# Altium integrated library Linear Technology Power Management Battery Management.IntLib: 626 symbols (part 30 of 56)
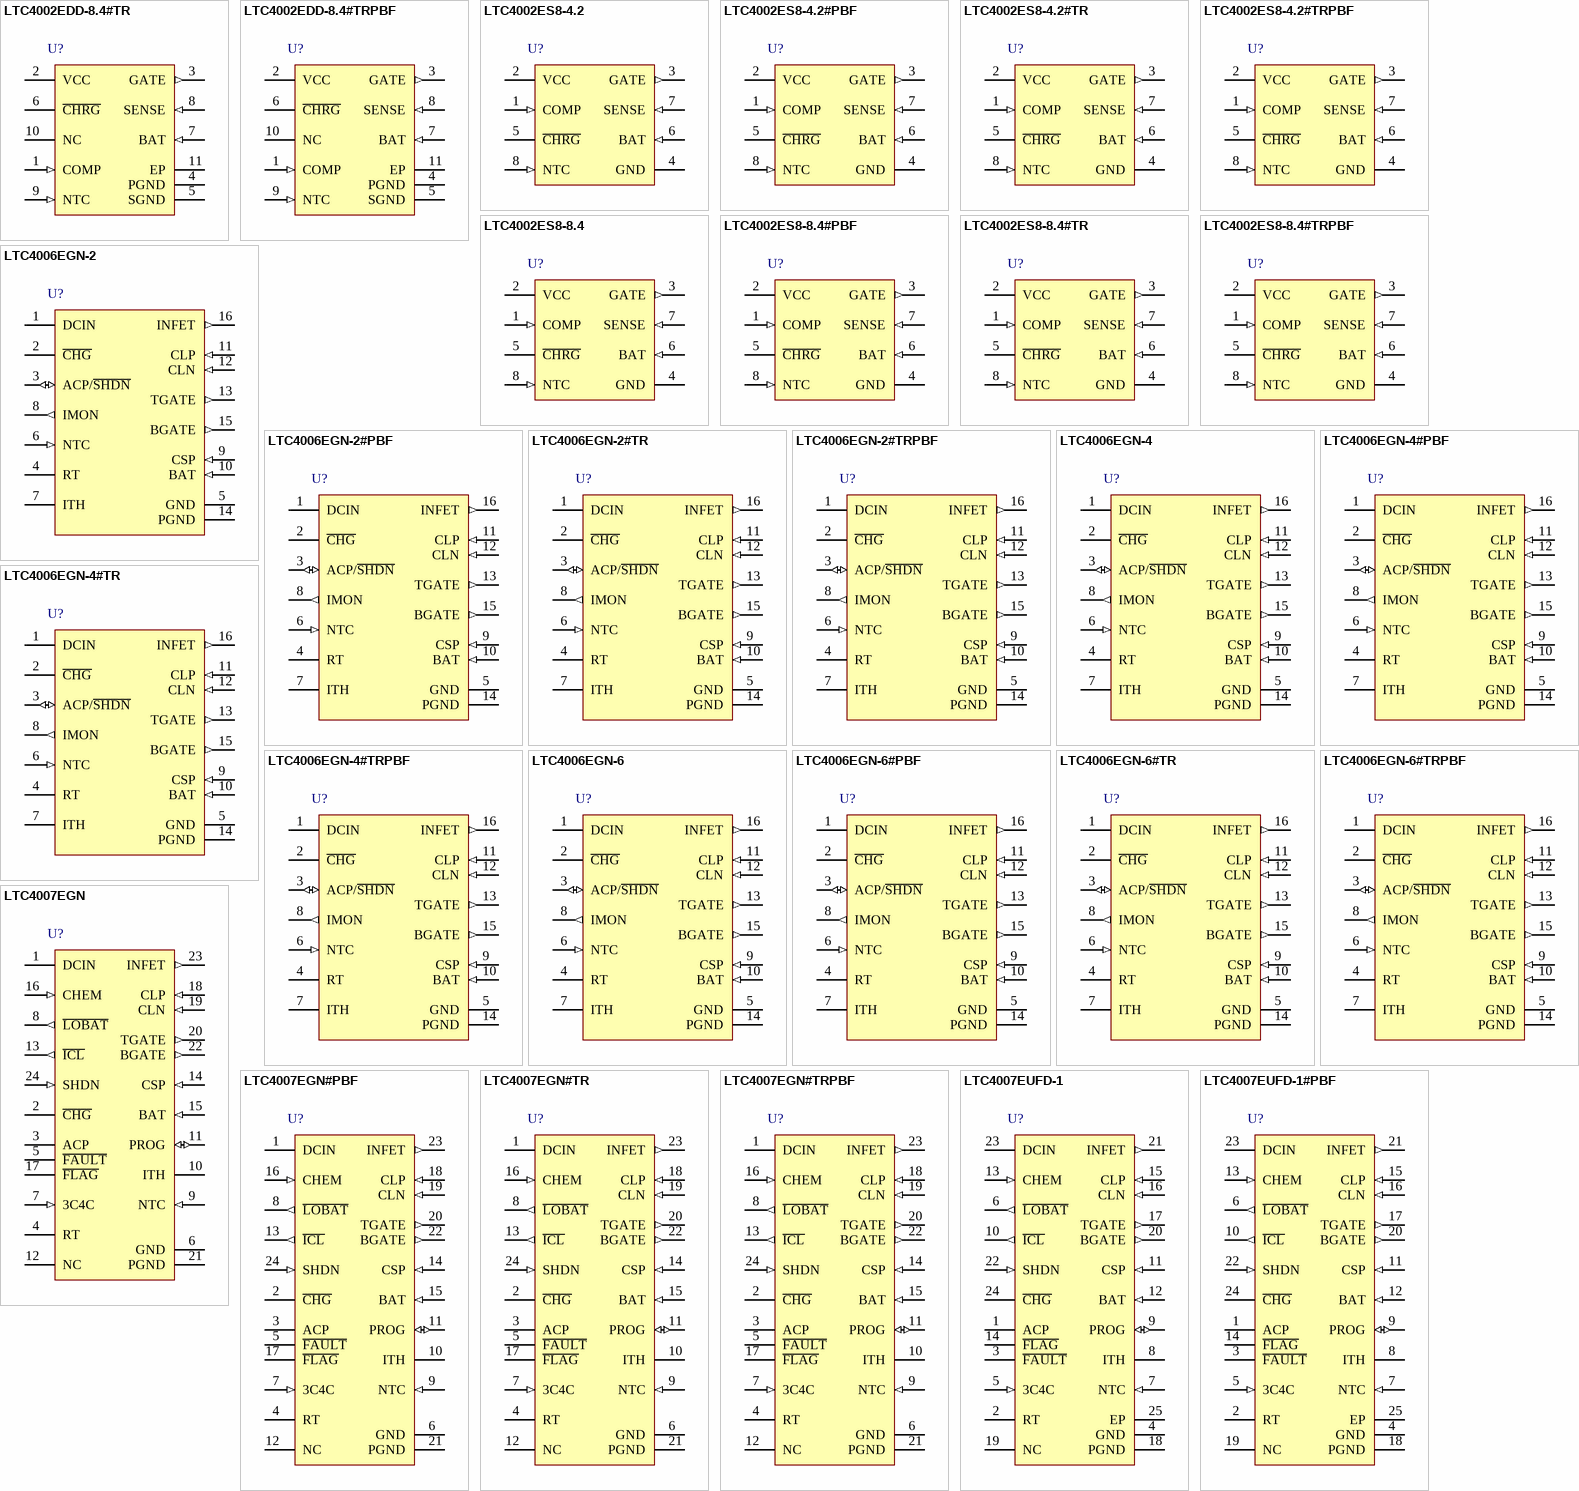
[diagram p51: symbols LTC4002EDD-8.4#TR to LTC4007EUFD-1#PBF]

## LTC4002ES8-4.2#TRPBF
designator U?
Standalone Li-Ion Switch Mode Battery Charger, 4.7 to 22 V Vin, 8-pin SOIC (S8-8), -40 to 85 degC, Pb-Free, Tape and Reel; Manufacturer: Linear Technology; PartNumber: LTC4002ES8-4.2#TRPBF; Battery Chemistry: Li-Ion, Li-Polymer; Charge Termination: On-board timer; Float Voltage: 4.2 V; Number of Cells: 1; Type of Charger: Switching; Vin Max(V): 22; Vin Min(V): 4.7; PackageVersion: Rev. G, 03/2012; PackageReference: S8-8; PackageDescription: 8-Pin Plastic Small Outline (Narrow .150 Inch), Body 4.9 x 3.9 mm, Pitch 1.27 mm; Supplier 1: Digi-Key; Supplier Part Number 1: LTC4002ES8-4.2#TRPBF-ND; Packing: Tape and Reel; RoHS: TRUE; Mounting Technology: Surface Mount; ComponentLink1Description: Manufacturer URL; ComponentLink1URL: http://www.linear.com/; ComponentLink2Description: Datasheet; ComponentLink2URL: http://cds.linear.com/docs/en/datasheet/4002f.pdf; ComponentLink3Description: Package Specification; ComponentLink3URL: http://cds.linear.com/docs/en/packaging/05081610_G_SO8.pdf
footprint LT-S8-8_N (SOIC, 8-Leads, Body 5x4mm, Pitch 1.27mm, IPC Medium Density)
footprint LT-S8-8_L (SOIC, 8-Leads, Body 5x4mm, Pitch 1.27mm, IPC High Density)
footprint LT-S8-8_M (SOIC, 8-Leads, Body 5x4mm, Pitch 1.27mm, IPC Low Density)
pins: 1 COMP (in) "Compensation, Soft-Start and Shutdown Control Pin. The COMP pin is the control signal of the inner loop of the current mode PWM. Charging begins when the COMP pin reaches 800mV. The recommended compensation components are a (See Datasheet)", 2 VCC (power) "Positive Supply Voltage Input. VCC can range from VBAT(FLT) + 0.5V to 22V. A 0.1uF or higher capacitor is required at the VCC pin with the lead length kept to a minimum. A 10uF low ESR capacitor is also required at the (See Datasheet)", 3 GATE (out) "Gate Drive Output. Driver Output for the P-Channel MOSFET. The voltage at this pin is internally clamped to 8V below VCC, allowing a low voltage MOSFET with gate-to-source breakdown voltage of 8V or less to be used.", 4 GND (power) "IC Ground. The exposed pad (DFN) must be soldered to PCB ground to provide both electrical contact and optimum thermal performance.", 5 ~{CHRG} (hiz) "Open-Drain Charge Status Output. When the battery is being charged, the C\H\R\G\ pin is pulled low by an internal N-channel MOSFET. When the charge current drops below the End-of-Charge threshold for more than 120us, the (See Datasheet)", 6 BAT (in) "Battery Sense Input. A bypass capacitor of 22uF is required to minimize ripple voltage. An internal resistor divider, which is disconnected in sleep mode, sets the final float voltage at this pin. If the battery connection (See Datasheet)", 7 SENSE (in) "Current Amplifier Sense Input. A sense resistor, RSENSE, must be connected between the SENSE and BAT pins. The maximum charge current is equal to 100mV/RSENSE.", 8 NTC (in) "NTC (Negative Temperature Coefficient) Thermistor Input. With an external 10kohm NTC thermistor to ground, this pin senses the temperature of the battery pack and stops the charger when the temperature is out of range. When (See Datasheet)"

## LTC4002ES8-8.4
designator U?
Standalone Li-Ion Switch Mode Battery Charger, 8.9 to 22 V Vin, 8-pin SOIC (S8-8), -40 to 85 degC; Manufacturer: Linear Technology; PartNumber: LTC4002ES8-8.4; Battery Chemistry: Li-Ion, Li-Polymer; Charge Termination: On-board timer; Float Voltage: 8.4 V; Number of Cells: 2; Type of Charger: Switching; Vin Max(V): 22; Vin Min(V): 8.9; PackageVersion: Rev. G, 03/2012; PackageReference: S8-8; PackageDescription: 8-Pin Plastic Small Outline (Narrow .150 Inch), Body 4.9 x 3.9 mm, Pitch 1.27 mm; Supplier 1: Digi-Key; Supplier Part Number 1: LTC4002ES8-8.4-ND; RoHS: FALSE; Mounting Technology: Surface Mount; ComponentLink1Description: Manufacturer URL; ComponentLink1URL: http://www.linear.com/; ComponentLink2Description: Datasheet; ComponentLink2URL: http://cds.linear.com/docs/en/datasheet/4002f.pdf; ComponentLink3Description: Package Specification; ComponentLink3URL: http://cds.linear.com/docs/en/packaging/05081610_G_SO8.pdf
footprint LT-S8-8_N (SOIC, 8-Leads, Body 5x4mm, Pitch 1.27mm, IPC Medium Density)
footprint LT-S8-8_L (SOIC, 8-Leads, Body 5x4mm, Pitch 1.27mm, IPC High Density)
footprint LT-S8-8_M (SOIC, 8-Leads, Body 5x4mm, Pitch 1.27mm, IPC Low Density)
pins: 1 COMP (in) "Compensation, Soft-Start and Shutdown Control Pin. The COMP pin is the control signal of the inner loop of the current mode PWM. Charging begins when the COMP pin reaches 800mV. The recommended compensation components are a (See Datasheet)", 2 VCC (power) "Positive Supply Voltage Input. VCC can range from VBAT(FLT) + 0.5V to 22V. A 0.1uF or higher capacitor is required at the VCC pin with the lead length kept to a minimum. A 10uF low ESR capacitor is also required at the (See Datasheet)", 3 GATE (out) "Gate Drive Output. Driver Output for the P-Channel MOSFET. The voltage at this pin is internally clamped to 8V below VCC, allowing a low voltage MOSFET with gate-to-source breakdown voltage of 8V or less to be used.", 4 GND (power) "IC Ground. The exposed pad (DFN) must be soldered to PCB ground to provide both electrical contact and optimum thermal performance.", 5 ~{CHRG} (hiz) "Open-Drain Charge Status Output. When the battery is being charged, the C\H\R\G\ pin is pulled low by an internal N-channel MOSFET. When the charge current drops below the End-of-Charge threshold for more than 120us, the (See Datasheet)", 6 BAT (in) "Battery Sense Input. A bypass capacitor of 22uF is required to minimize ripple voltage. An internal resistor divider, which is disconnected in sleep mode, sets the final float voltage at this pin. If the battery connection (See Datasheet)", 7 SENSE (in) "Current Amplifier Sense Input. A sense resistor, RSENSE, must be connected between the SENSE and BAT pins. The maximum charge current is equal to 100mV/RSENSE.", 8 NTC (in) "NTC (Negative Temperature Coefficient) Thermistor Input. With an external 10kohm NTC thermistor to ground, this pin senses the temperature of the battery pack and stops the charger when the temperature is out of range. When (See Datasheet)"

## LTC4002ES8-8.4#PBF
designator U?
Standalone Li-Ion Switch Mode Battery Charger, 8.9 to 22 V Vin, 8-pin SOIC (S8-8), -40 to 85 degC, Pb-Free; Manufacturer: Linear Technology; PartNumber: LTC4002ES8-8.4#PBF; Battery Chemistry: Li-Ion, Li-Polymer; Charge Termination: On-board timer; Float Voltage: 8.4 V; Number of Cells: 2; Type of Charger: Switching; Vin Max(V): 22; Vin Min(V): 8.9; PackageVersion: Rev. G, 03/2012; PackageReference: S8-8; PackageDescription: 8-Pin Plastic Small Outline (Narrow .150 Inch), Body 4.9 x 3.9 mm, Pitch 1.27 mm; Supplier 1: Digi-Key; Supplier Part Number 1: LTC4002ES8-8.4#PBF-ND; Supplier 2: Farnell; Supplier Part Number 2: 1556268; Supplier 3: Newark; Supplier Part Number 3: 58M0818; RoHS: TRUE; Mounting Technology: Surface Mount; ComponentLink1Description: Manufacturer URL; ComponentLink1URL: http://www.linear.com/; ComponentLink2Description: Datasheet; ComponentLink2URL: http://cds.linear.com/docs/en/datasheet/4002f.pdf; ComponentLink3Description: Package Specification; ComponentLink3URL: http://cds.linear.com/docs/en/packaging/05081610_G_SO8.pdf
footprint LT-S8-8_N (SOIC, 8-Leads, Body 5x4mm, Pitch 1.27mm, IPC Medium Density)
footprint LT-S8-8_L (SOIC, 8-Leads, Body 5x4mm, Pitch 1.27mm, IPC High Density)
footprint LT-S8-8_M (SOIC, 8-Leads, Body 5x4mm, Pitch 1.27mm, IPC Low Density)
pins: 1 COMP (in) "Compensation, Soft-Start and Shutdown Control Pin. The COMP pin is the control signal of the inner loop of the current mode PWM. Charging begins when the COMP pin reaches 800mV. The recommended compensation components are a (See Datasheet)", 2 VCC (power) "Positive Supply Voltage Input. VCC can range from VBAT(FLT) + 0.5V to 22V. A 0.1uF or higher capacitor is required at the VCC pin with the lead length kept to a minimum. A 10uF low ESR capacitor is also required at the (See Datasheet)", 3 GATE (out) "Gate Drive Output. Driver Output for the P-Channel MOSFET. The voltage at this pin is internally clamped to 8V below VCC, allowing a low voltage MOSFET with gate-to-source breakdown voltage of 8V or less to be used.", 4 GND (power) "IC Ground. The exposed pad (DFN) must be soldered to PCB ground to provide both electrical contact and optimum thermal performance.", 5 ~{CHRG} (hiz) "Open-Drain Charge Status Output. When the battery is being charged, the C\H\R\G\ pin is pulled low by an internal N-channel MOSFET. When the charge current drops below the End-of-Charge threshold for more than 120us, the (See Datasheet)", 6 BAT (in) "Battery Sense Input. A bypass capacitor of 22uF is required to minimize ripple voltage. An internal resistor divider, which is disconnected in sleep mode, sets the final float voltage at this pin. If the battery connection (See Datasheet)", 7 SENSE (in) "Current Amplifier Sense Input. A sense resistor, RSENSE, must be connected between the SENSE and BAT pins. The maximum charge current is equal to 100mV/RSENSE.", 8 NTC (in) "NTC (Negative Temperature Coefficient) Thermistor Input. With an external 10kohm NTC thermistor to ground, this pin senses the temperature of the battery pack and stops the charger when the temperature is out of range. When (See Datasheet)"

## LTC4002ES8-8.4#TR
designator U?
Standalone Li-Ion Switch Mode Battery Charger, 8.9 to 22 V Vin, 8-pin SOIC (S8-8), -40 to 85 degC, Tape and Reel; Manufacturer: Linear Technology; PartNumber: LTC4002ES8-8.4#TR; Battery Chemistry: Li-Ion, Li-Polymer; Charge Termination: On-board timer; Float Voltage: 8.4 V; Number of Cells: 2; Type of Charger: Switching; Vin Max(V): 22; Vin Min(V): 8.9; PackageVersion: Rev. G, 03/2012; PackageReference: S8-8; PackageDescription: 8-Pin Plastic Small Outline (Narrow .150 Inch), Body 4.9 x 3.9 mm, Pitch 1.27 mm; Supplier 1: Digi-Key; Supplier Part Number 1: LTC4002ES8-8.4#TR-ND; Packing: Tape and Reel; RoHS: FALSE; Mounting Technology: Surface Mount; ComponentLink1Description: Manufacturer URL; ComponentLink1URL: http://www.linear.com/; ComponentLink2Description: Datasheet; ComponentLink2URL: http://cds.linear.com/docs/en/datasheet/4002f.pdf; ComponentLink3Description: Package Specification; ComponentLink3URL: http://cds.linear.com/docs/en/packaging/05081610_G_SO8.pdf
footprint LT-S8-8_N (SOIC, 8-Leads, Body 5x4mm, Pitch 1.27mm, IPC Medium Density)
footprint LT-S8-8_L (SOIC, 8-Leads, Body 5x4mm, Pitch 1.27mm, IPC High Density)
footprint LT-S8-8_M (SOIC, 8-Leads, Body 5x4mm, Pitch 1.27mm, IPC Low Density)
pins: 1 COMP (in) "Compensation, Soft-Start and Shutdown Control Pin. The COMP pin is the control signal of the inner loop of the current mode PWM. Charging begins when the COMP pin reaches 800mV. The recommended compensation components are a (See Datasheet)", 2 VCC (power) "Positive Supply Voltage Input. VCC can range from VBAT(FLT) + 0.5V to 22V. A 0.1uF or higher capacitor is required at the VCC pin with the lead length kept to a minimum. A 10uF low ESR capacitor is also required at the (See Datasheet)", 3 GATE (out) "Gate Drive Output. Driver Output for the P-Channel MOSFET. The voltage at this pin is internally clamped to 8V below VCC, allowing a low voltage MOSFET with gate-to-source breakdown voltage of 8V or less to be used.", 4 GND (power) "IC Ground. The exposed pad (DFN) must be soldered to PCB ground to provide both electrical contact and optimum thermal performance.", 5 ~{CHRG} (hiz) "Open-Drain Charge Status Output. When the battery is being charged, the C\H\R\G\ pin is pulled low by an internal N-channel MOSFET. When the charge current drops below the End-of-Charge threshold for more than 120us, the (See Datasheet)", 6 BAT (in) "Battery Sense Input. A bypass capacitor of 22uF is required to minimize ripple voltage. An internal resistor divider, which is disconnected in sleep mode, sets the final float voltage at this pin. If the battery connection (See Datasheet)", 7 SENSE (in) "Current Amplifier Sense Input. A sense resistor, RSENSE, must be connected between the SENSE and BAT pins. The maximum charge current is equal to 100mV/RSENSE.", 8 NTC (in) "NTC (Negative Temperature Coefficient) Thermistor Input. With an external 10kohm NTC thermistor to ground, this pin senses the temperature of the battery pack and stops the charger when the temperature is out of range. When (See Datasheet)"

## LTC4002ES8-8.4#TRPBF
designator U?
Standalone Li-Ion Switch Mode Battery Charger, 8.9 to 22 V Vin, 8-pin SOIC (S8-8), -40 to 85 degC, Pb-Free, Tape and Reel; Manufacturer: Linear Technology; PartNumber: LTC4002ES8-8.4#TRPBF; Battery Chemistry: Li-Ion, Li-Polymer; Charge Termination: On-board timer; Float Voltage: 8.4 V; Number of Cells: 2; Type of Charger: Switching; Vin Max(V): 22; Vin Min(V): 8.9; PackageVersion: Rev. G, 03/2012; PackageReference: S8-8; PackageDescription: 8-Pin Plastic Small Outline (Narrow .150 Inch), Body 4.9 x 3.9 mm, Pitch 1.27 mm; Supplier 1: Digi-Key; Supplier Part Number 1: LTC4002ES8-8.4#TRPBF-ND; Packing: Tape and Reel; RoHS: TRUE; Mounting Technology: Surface Mount; ComponentLink1Description: Manufacturer URL; ComponentLink1URL: http://www.linear.com/; ComponentLink2Description: Datasheet; ComponentLink2URL: http://cds.linear.com/docs/en/datasheet/4002f.pdf; ComponentLink3Description: Package Specification; ComponentLink3URL: http://cds.linear.com/docs/en/packaging/05081610_G_SO8.pdf
footprint LT-S8-8_N (SOIC, 8-Leads, Body 5x4mm, Pitch 1.27mm, IPC Medium Density)
footprint LT-S8-8_L (SOIC, 8-Leads, Body 5x4mm, Pitch 1.27mm, IPC High Density)
footprint LT-S8-8_M (SOIC, 8-Leads, Body 5x4mm, Pitch 1.27mm, IPC Low Density)
pins: 1 COMP (in) "Compensation, Soft-Start and Shutdown Control Pin. The COMP pin is the control signal of the inner loop of the current mode PWM. Charging begins when the COMP pin reaches 800mV. The recommended compensation components are a (See Datasheet)", 2 VCC (power) "Positive Supply Voltage Input. VCC can range from VBAT(FLT) + 0.5V to 22V. A 0.1uF or higher capacitor is required at the VCC pin with the lead length kept to a minimum. A 10uF low ESR capacitor is also required at the (See Datasheet)", 3 GATE (out) "Gate Drive Output. Driver Output for the P-Channel MOSFET. The voltage at this pin is internally clamped to 8V below VCC, allowing a low voltage MOSFET with gate-to-source breakdown voltage of 8V or less to be used.", 4 GND (power) "IC Ground. The exposed pad (DFN) must be soldered to PCB ground to provide both electrical contact and optimum thermal performance.", 5 ~{CHRG} (hiz) "Open-Drain Charge Status Output. When the battery is being charged, the C\H\R\G\ pin is pulled low by an internal N-channel MOSFET. When the charge current drops below the End-of-Charge threshold for more than 120us, the (See Datasheet)", 6 BAT (in) "Battery Sense Input. A bypass capacitor of 22uF is required to minimize ripple voltage. An internal resistor divider, which is disconnected in sleep mode, sets the final float voltage at this pin. If the battery connection (See Datasheet)", 7 SENSE (in) "Current Amplifier Sense Input. A sense resistor, RSENSE, must be connected between the SENSE and BAT pins. The maximum charge current is equal to 100mV/RSENSE.", 8 NTC (in) "NTC (Negative Temperature Coefficient) Thermistor Input. With an external 10kohm NTC thermistor to ground, this pin senses the temperature of the battery pack and stops the charger when the temperature is out of range. When (See Datasheet)"

## LTC4006EGN-2
designator U?
4 A, High Efficiency, Standalone Li-Ion Battery Charger, 6 to 28 V Vin, 16-pin SOP (GN-16), -40 to 85 degC; Manufacturer: Linear Technology; PartNumber: LTC4006EGN-2; Battery Chemistry: Li-Ion, Li-Polymer; Charge Termination: On-board timer; Float Voltage: 12.6 V; Number of Cells: 2 to 4; Type of Charger: Switching; Vin Max(V): 28; Vin Min(V): 6; DatasheetVersion: Rev. A; PackageVersion: Rev. B, 03/2012; PackageReference: GN-16; PackageDescription: 16-Pin Plastic SSOP, Body 4.9 x 3.9 mm, Pitch 0.635 mm; Supplier 1: Digi-Key; Supplier Part Number 1: LTC4006EGN-2-ND; RoHS: FALSE; Mounting Technology: Surface Mount; ComponentLink1Description: Manufacturer URL; ComponentLink1URL: http://www.linear.com/; ComponentLink2Description: Datasheet; ComponentLink2URL: http://cds.linear.com/docs/en/datasheet/4006fa.pdf; ComponentLink3Description: Package Specification; ComponentLink3URL: http://cds.linear.com/docs/en/packaging/05081641_B_GN16.pdf
footprint LT-GN-16_N (SOP, 16-Leads, Body 5x4mm, Pitch 0.635mm, IPC Medium Density)
footprint LT-GN-16_L (SOP, 16-Leads, Body 5x4mm, Pitch 0.635mm, IPC High Density)
footprint LT-GN-16_M (SOP, 16-Leads, Body 5x4mm, Pitch 0.635mm, IPC Low Density)
pins: 1 DCIN (power) "External DC Power Source Input. Bypass this pin with at least 0.01uF. See Applications Information section.", 2 ~{CHG} (hiz) "Open-Drain Charge Status Output. When the battery is being charged, the C\H\G\ pin is pulled low by an internal N-channel MOSFET. When the charge current drops below 10% of programmed current, the N-channel MOSFET turns off (See Datasheet)", 3 ACP/~{SHDN} (io), 4 RT "Timer Resistor. The timer period is set by placing a resistor, RRT, to GND.", 5 GND (power) "Ground for low power circuitry.", 6 NTC (in) "A thermistor network is connected from NTC to GND. This pin determines if the battery temperature is safe for charging. The charger and timer are suspended if the thermistor indicates a temperature that is unsafe for (See Datasheet)", 7 ITH "Control Signal of the Inner Loop of the Current Mode PWM. Higher ITH voltage corresponds to higher charging currrent in normal operation. A 6.04k resistor, in series with a capacitor of at least 0.1uF to GND, provides loop (See Datasheet)", 8 IMON (out) "Current Monitoring Output. The voltage at this pin provides a linear indication of charging current. Peak current is equivalent to 1.19V. Zero current is approximately 0.309V. A capacitor from IMON to ground is required to (See Datasheet)", 9 CSP (in) "Current Amplifier CA1 Input. This pin and the BAT pin measure the voltage across the sense resistor, RSENSE, to provide the instantaneous current signals required for both peak and average current mode operation.", 10 BAT (in) "Battery Sense Input and the Negative Reference for the Current Sense Resistor. A precision internal resistor divider sets the final float potential on this pin. The resistor divider is disconnected during shutdown.", 11 CLP (in) "Positive Input to the Supply Current Limiting Amplifier, CL1. The threshold is set at 100mV above the voltage at the CLN pin. When used to limit supply current, a filter is needed to filter out the switching noise. If no (See Datasheet)", 12 CLN (in) "Negative Reference for the Input Current Limit Amplifier, CL1. This pin also serves as the power supply for the IC. A 10uF to 22uF bypass capacitor should be connected as close as possible to this pin.", 13 TGATE (out) "Drives the top external P-channel MOSFET of the battery charger buck converter.", 14 PGND (power) "High Current Ground Return for the BGATE Driver.", 15 BGATE (out) "Drives the bottom external N-channel MOSFET of the battery charger buck converter.", 16 INFET (out) "Drives the Gate of the External Input PFET."

## LTC4006EGN-2#PBF
designator U?
4 A, High Efficiency, Standalone Li-Ion Battery Charger, 6 to 28 V Vin, 16-pin SOP (GN-16), -40 to 85 degC, Pb-Free; Manufacturer: Linear Technology; PartNumber: LTC4006EGN-2#PBF; Battery Chemistry: Li-Ion, Li-Polymer; Charge Termination: On-board timer; Float Voltage: 12.6 V; Number of Cells: 2 to 4; Type of Charger: Switching; Vin Max(V): 28; Vin Min(V): 6; DatasheetVersion: Rev. A; PackageVersion: Rev. B, 03/2012; PackageReference: GN-16; PackageDescription: 16-Pin Plastic SSOP, Body 4.9 x 3.9 mm, Pitch 0.635 mm; Supplier 1: Digi-Key; Supplier Part Number 1: LTC4006EGN-2#PBF-ND; Supplier 2: Farnell; Supplier Part Number 2: 1648027; Supplier 3: Newark; Supplier Part Number 3: 56M8642; RoHS: TRUE; Mounting Technology: Surface Mount; ComponentLink1Description: Manufacturer URL; ComponentLink1URL: http://www.linear.com/; ComponentLink2Description: Datasheet; ComponentLink2URL: http://cds.linear.com/docs/en/datasheet/4006fa.pdf; ComponentLink3Description: Package Specification; ComponentLink3URL: http://cds.linear.com/docs/en/packaging/05081641_B_GN16.pdf
footprint LT-GN-16_N (SOP, 16-Leads, Body 5x4mm, Pitch 0.635mm, IPC Medium Density)
footprint LT-GN-16_L (SOP, 16-Leads, Body 5x4mm, Pitch 0.635mm, IPC High Density)
footprint LT-GN-16_M (SOP, 16-Leads, Body 5x4mm, Pitch 0.635mm, IPC Low Density)
pins: 1 DCIN (power) "External DC Power Source Input. Bypass this pin with at least 0.01uF. See Applications Information section.", 2 ~{CHG} (hiz) "Open-Drain Charge Status Output. When the battery is being charged, the C\H\G\ pin is pulled low by an internal N-channel MOSFET. When the charge current drops below 10% of programmed current, the N-channel MOSFET turns off (See Datasheet)", 3 ACP/~{SHDN} (io), 4 RT "Timer Resistor. The timer period is set by placing a resistor, RRT, to GND.", 5 GND (power) "Ground for low power circuitry.", 6 NTC (in) "A thermistor network is connected from NTC to GND. This pin determines if the battery temperature is safe for charging. The charger and timer are suspended if the thermistor indicates a temperature that is unsafe for (See Datasheet)", 7 ITH "Control Signal of the Inner Loop of the Current Mode PWM. Higher ITH voltage corresponds to higher charging currrent in normal operation. A 6.04k resistor, in series with a capacitor of at least 0.1uF to GND, provides loop (See Datasheet)", 8 IMON (out) "Current Monitoring Output. The voltage at this pin provides a linear indication of charging current. Peak current is equivalent to 1.19V. Zero current is approximately 0.309V. A capacitor from IMON to ground is required to (See Datasheet)", 9 CSP (in) "Current Amplifier CA1 Input. This pin and the BAT pin measure the voltage across the sense resistor, RSENSE, to provide the instantaneous current signals required for both peak and average current mode operation.", 10 BAT (in) "Battery Sense Input and the Negative Reference for the Current Sense Resistor. A precision internal resistor divider sets the final float potential on this pin. The resistor divider is disconnected during shutdown.", 11 CLP (in) "Positive Input to the Supply Current Limiting Amplifier, CL1. The threshold is set at 100mV above the voltage at the CLN pin. When used to limit supply current, a filter is needed to filter out the switching noise. If no (See Datasheet)", 12 CLN (in) "Negative Reference for the Input Current Limit Amplifier, CL1. This pin also serves as the power supply for the IC. A 10uF to 22uF bypass capacitor should be connected as close as possible to this pin.", 13 TGATE (out) "Drives the top external P-channel MOSFET of the battery charger buck converter.", 14 PGND (power) "High Current Ground Return for the BGATE Driver.", 15 BGATE (out) "Drives the bottom external N-channel MOSFET of the battery charger buck converter.", 16 INFET (out) "Drives the Gate of the External Input PFET."

## LTC4006EGN-2#TR
designator U?
4 A, High Efficiency, Standalone Li-Ion Battery Charger, 6 to 28 V Vin, 16-pin SOP (GN-16), -40 to 85 degC, Tape and Reel; Manufacturer: Linear Technology; PartNumber: LTC4006EGN-2#TR; Battery Chemistry: Li-Ion, Li-Polymer; Charge Termination: On-board timer; Float Voltage: 12.6 V; Number of Cells: 2 to 4; Type of Charger: Switching; Vin Max(V): 28; Vin Min(V): 6; DatasheetVersion: Rev. A; PackageVersion: Rev. B, 03/2012; PackageReference: GN-16; PackageDescription: 16-Pin Plastic SSOP, Body 4.9 x 3.9 mm, Pitch 0.635 mm; Supplier 1: Digi-Key; Supplier Part Number 1: LTC4006EGN-2#TR-ND; Packing: Tape and Reel; RoHS: FALSE; Mounting Technology: Surface Mount; ComponentLink1Description: Manufacturer URL; ComponentLink1URL: http://www.linear.com/; ComponentLink2Description: Datasheet; ComponentLink2URL: http://cds.linear.com/docs/en/datasheet/4006fa.pdf; ComponentLink3Description: Package Specification; ComponentLink3URL: http://cds.linear.com/docs/en/packaging/05081641_B_GN16.pdf
footprint LT-GN-16_N (SOP, 16-Leads, Body 5x4mm, Pitch 0.635mm, IPC Medium Density)
footprint LT-GN-16_L (SOP, 16-Leads, Body 5x4mm, Pitch 0.635mm, IPC High Density)
footprint LT-GN-16_M (SOP, 16-Leads, Body 5x4mm, Pitch 0.635mm, IPC Low Density)
pins: 1 DCIN (power) "External DC Power Source Input. Bypass this pin with at least 0.01uF. See Applications Information section.", 2 ~{CHG} (hiz) "Open-Drain Charge Status Output. When the battery is being charged, the C\H\G\ pin is pulled low by an internal N-channel MOSFET. When the charge current drops below 10% of programmed current, the N-channel MOSFET turns off (See Datasheet)", 3 ACP/~{SHDN} (io), 4 RT "Timer Resistor. The timer period is set by placing a resistor, RRT, to GND.", 5 GND (power) "Ground for low power circuitry.", 6 NTC (in) "A thermistor network is connected from NTC to GND. This pin determines if the battery temperature is safe for charging. The charger and timer are suspended if the thermistor indicates a temperature that is unsafe for (See Datasheet)", 7 ITH "Control Signal of the Inner Loop of the Current Mode PWM. Higher ITH voltage corresponds to higher charging currrent in normal operation. A 6.04k resistor, in series with a capacitor of at least 0.1uF to GND, provides loop (See Datasheet)", 8 IMON (out) "Current Monitoring Output. The voltage at this pin provides a linear indication of charging current. Peak current is equivalent to 1.19V. Zero current is approximately 0.309V. A capacitor from IMON to ground is required to (See Datasheet)", 9 CSP (in) "Current Amplifier CA1 Input. This pin and the BAT pin measure the voltage across the sense resistor, RSENSE, to provide the instantaneous current signals required for both peak and average current mode operation.", 10 BAT (in) "Battery Sense Input and the Negative Reference for the Current Sense Resistor. A precision internal resistor divider sets the final float potential on this pin. The resistor divider is disconnected during shutdown.", 11 CLP (in) "Positive Input to the Supply Current Limiting Amplifier, CL1. The threshold is set at 100mV above the voltage at the CLN pin. When used to limit supply current, a filter is needed to filter out the switching noise. If no (See Datasheet)", 12 CLN (in) "Negative Reference for the Input Current Limit Amplifier, CL1. This pin also serves as the power supply for the IC. A 10uF to 22uF bypass capacitor should be connected as close as possible to this pin.", 13 TGATE (out) "Drives the top external P-channel MOSFET of the battery charger buck converter.", 14 PGND (power) "High Current Ground Return for the BGATE Driver.", 15 BGATE (out) "Drives the bottom external N-channel MOSFET of the battery charger buck converter.", 16 INFET (out) "Drives the Gate of the External Input PFET."

## LTC4006EGN-2#TRPBF
designator U?
4 A, High Efficiency, Standalone Li-Ion Battery Charger, 6 to 28 V Vin, 16-pin SOP (GN-16), -40 to 85 degC, Pb-Free, Tape and Reel; Manufacturer: Linear Technology; PartNumber: LTC4006EGN-2#TRPBF; Battery Chemistry: Li-Ion, Li-Polymer; Charge Termination: On-board timer; Float Voltage: 12.6 V; Number of Cells: 2 to 4; Type of Charger: Switching; Vin Max(V): 28; Vin Min(V): 6; DatasheetVersion: Rev. A; PackageVersion: Rev. B, 03/2012; PackageReference: GN-16; PackageDescription: 16-Pin Plastic SSOP, Body 4.9 x 3.9 mm, Pitch 0.635 mm; Supplier 1: Digi-Key; Supplier Part Number 1: LTC4006EGN-2#TRPBF-ND; Packing: Tape and Reel; RoHS: TRUE; Mounting Technology: Surface Mount; ComponentLink1Description: Manufacturer URL; ComponentLink1URL: http://www.linear.com/; ComponentLink2Description: Datasheet; ComponentLink2URL: http://cds.linear.com/docs/en/datasheet/4006fa.pdf; ComponentLink3Description: Package Specification; ComponentLink3URL: http://cds.linear.com/docs/en/packaging/05081641_B_GN16.pdf
footprint LT-GN-16_N (SOP, 16-Leads, Body 5x4mm, Pitch 0.635mm, IPC Medium Density)
footprint LT-GN-16_L (SOP, 16-Leads, Body 5x4mm, Pitch 0.635mm, IPC High Density)
footprint LT-GN-16_M (SOP, 16-Leads, Body 5x4mm, Pitch 0.635mm, IPC Low Density)
pins: 1 DCIN (power) "External DC Power Source Input. Bypass this pin with at least 0.01uF. See Applications Information section.", 2 ~{CHG} (hiz) "Open-Drain Charge Status Output. When the battery is being charged, the C\H\G\ pin is pulled low by an internal N-channel MOSFET. When the charge current drops below 10% of programmed current, the N-channel MOSFET turns off (See Datasheet)", 3 ACP/~{SHDN} (io), 4 RT "Timer Resistor. The timer period is set by placing a resistor, RRT, to GND.", 5 GND (power) "Ground for low power circuitry.", 6 NTC (in) "A thermistor network is connected from NTC to GND. This pin determines if the battery temperature is safe for charging. The charger and timer are suspended if the thermistor indicates a temperature that is unsafe for (See Datasheet)", 7 ITH "Control Signal of the Inner Loop of the Current Mode PWM. Higher ITH voltage corresponds to higher charging currrent in normal operation. A 6.04k resistor, in series with a capacitor of at least 0.1uF to GND, provides loop (See Datasheet)", 8 IMON (out) "Current Monitoring Output. The voltage at this pin provides a linear indication of charging current. Peak current is equivalent to 1.19V. Zero current is approximately 0.309V. A capacitor from IMON to ground is required to (See Datasheet)", 9 CSP (in) "Current Amplifier CA1 Input. This pin and the BAT pin measure the voltage across the sense resistor, RSENSE, to provide the instantaneous current signals required for both peak and average current mode operation.", 10 BAT (in) "Battery Sense Input and the Negative Reference for the Current Sense Resistor. A precision internal resistor divider sets the final float potential on this pin. The resistor divider is disconnected during shutdown.", 11 CLP (in) "Positive Input to the Supply Current Limiting Amplifier, CL1. The threshold is set at 100mV above the voltage at the CLN pin. When used to limit supply current, a filter is needed to filter out the switching noise. If no (See Datasheet)", 12 CLN (in) "Negative Reference for the Input Current Limit Amplifier, CL1. This pin also serves as the power supply for the IC. A 10uF to 22uF bypass capacitor should be connected as close as possible to this pin.", 13 TGATE (out) "Drives the top external P-channel MOSFET of the battery charger buck converter.", 14 PGND (power) "High Current Ground Return for the BGATE Driver.", 15 BGATE (out) "Drives the bottom external N-channel MOSFET of the battery charger buck converter.", 16 INFET (out) "Drives the Gate of the External Input PFET."

## LTC4006EGN-4
designator U?
4 A, High Efficiency, Standalone Li-Ion Battery Charger, 6 to 28 V Vin, 16-pin SOP (GN-16), -40 to 85 degC; Manufacturer: Linear Technology; PartNumber: LTC4006EGN-4; Battery Chemistry: Li-Ion, Li-Polymer; Charge Termination: On-board timer; Float Voltage: 16.8 V; Number of Cells: 2 to 4; Type of Charger: Switching; Vin Max(V): 28; Vin Min(V): 6; DatasheetVersion: Rev. A; PackageVersion: Rev. B, 03/2012; PackageReference: GN-16; PackageDescription: 16-Pin Plastic SSOP, Body 4.9 x 3.9 mm, Pitch 0.635 mm; Supplier 1: Digi-Key; Supplier Part Number 1: LTC4006EGN-4-ND; RoHS: FALSE; Mounting Technology: Surface Mount; ComponentLink1Description: Manufacturer URL; ComponentLink1URL: http://www.linear.com/; ComponentLink2Description: Datasheet; ComponentLink2URL: http://cds.linear.com/docs/en/datasheet/4006fa.pdf; ComponentLink3Description: Package Specification; ComponentLink3URL: http://cds.linear.com/docs/en/packaging/05081641_B_GN16.pdf
footprint LT-GN-16_N (SOP, 16-Leads, Body 5x4mm, Pitch 0.635mm, IPC Medium Density)
footprint LT-GN-16_L (SOP, 16-Leads, Body 5x4mm, Pitch 0.635mm, IPC High Density)
footprint LT-GN-16_M (SOP, 16-Leads, Body 5x4mm, Pitch 0.635mm, IPC Low Density)
pins: 1 DCIN (power) "External DC Power Source Input. Bypass this pin with at least 0.01uF. See Applications Information section.", 2 ~{CHG} (hiz) "Open-Drain Charge Status Output. When the battery is being charged, the C\H\G\ pin is pulled low by an internal N-channel MOSFET. When the charge current drops below 10% of programmed current, the N-channel MOSFET turns off (See Datasheet)", 3 ACP/~{SHDN} (io), 4 RT "Timer Resistor. The timer period is set by placing a resistor, RRT, to GND.", 5 GND (power) "Ground for low power circuitry.", 6 NTC (in) "A thermistor network is connected from NTC to GND. This pin determines if the battery temperature is safe for charging. The charger and timer are suspended if the thermistor indicates a temperature that is unsafe for (See Datasheet)", 7 ITH "Control Signal of the Inner Loop of the Current Mode PWM. Higher ITH voltage corresponds to higher charging currrent in normal operation. A 6.04k resistor, in series with a capacitor of at least 0.1uF to GND, provides loop (See Datasheet)", 8 IMON (out) "Current Monitoring Output. The voltage at this pin provides a linear indication of charging current. Peak current is equivalent to 1.19V. Zero current is approximately 0.309V. A capacitor from IMON to ground is required to (See Datasheet)", 9 CSP (in) "Current Amplifier CA1 Input. This pin and the BAT pin measure the voltage across the sense resistor, RSENSE, to provide the instantaneous current signals required for both peak and average current mode operation.", 10 BAT (in) "Battery Sense Input and the Negative Reference for the Current Sense Resistor. A precision internal resistor divider sets the final float potential on this pin. The resistor divider is disconnected during shutdown.", 11 CLP (in) "Positive Input to the Supply Current Limiting Amplifier, CL1. The threshold is set at 100mV above the voltage at the CLN pin. When used to limit supply current, a filter is needed to filter out the switching noise. If no (See Datasheet)", 12 CLN (in) "Negative Reference for the Input Current Limit Amplifier, CL1. This pin also serves as the power supply for the IC. A 10uF to 22uF bypass capacitor should be connected as close as possible to this pin.", 13 TGATE (out) "Drives the top external P-channel MOSFET of the battery charger buck converter.", 14 PGND (power) "High Current Ground Return for the BGATE Driver.", 15 BGATE (out) "Drives the bottom external N-channel MOSFET of the battery charger buck converter.", 16 INFET (out) "Drives the Gate of the External Input PFET."

## LTC4006EGN-4#PBF
designator U?
4 A, High Efficiency, Standalone Li-Ion Battery Charger, 6 to 28 V Vin, 16-pin SOP (GN-16), -40 to 85 degC, Pb-Free; Manufacturer: Linear Technology; PartNumber: LTC4006EGN-4#PBF; Battery Chemistry: Li-Ion, Li-Polymer; Charge Termination: On-board timer; Float Voltage: 16.8 V; Number of Cells: 2 to 4; Type of Charger: Switching; Vin Max(V): 28; Vin Min(V): 6; DatasheetVersion: Rev. A; PackageVersion: Rev. B, 03/2012; PackageReference: GN-16; PackageDescription: 16-Pin Plastic SSOP, Body 4.9 x 3.9 mm, Pitch 0.635 mm; Supplier 1: Digi-Key; Supplier Part Number 1: LTC4006EGN-4#PBF-ND; Supplier 2: Newark; Supplier Part Number 2: 56M8646; RoHS: TRUE; Mounting Technology: Surface Mount; ComponentLink1Description: Manufacturer URL; ComponentLink1URL: http://www.linear.com/; ComponentLink2Description: Datasheet; ComponentLink2URL: http://cds.linear.com/docs/en/datasheet/4006fa.pdf; ComponentLink3Description: Package Specification; ComponentLink3URL: http://cds.linear.com/docs/en/packaging/05081641_B_GN16.pdf
footprint LT-GN-16_N (SOP, 16-Leads, Body 5x4mm, Pitch 0.635mm, IPC Medium Density)
footprint LT-GN-16_L (SOP, 16-Leads, Body 5x4mm, Pitch 0.635mm, IPC High Density)
footprint LT-GN-16_M (SOP, 16-Leads, Body 5x4mm, Pitch 0.635mm, IPC Low Density)
pins: 1 DCIN (power) "External DC Power Source Input. Bypass this pin with at least 0.01uF. See Applications Information section.", 2 ~{CHG} (hiz) "Open-Drain Charge Status Output. When the battery is being charged, the C\H\G\ pin is pulled low by an internal N-channel MOSFET. When the charge current drops below 10% of programmed current, the N-channel MOSFET turns off (See Datasheet)", 3 ACP/~{SHDN} (io), 4 RT "Timer Resistor. The timer period is set by placing a resistor, RRT, to GND.", 5 GND (power) "Ground for low power circuitry.", 6 NTC (in) "A thermistor network is connected from NTC to GND. This pin determines if the battery temperature is safe for charging. The charger and timer are suspended if the thermistor indicates a temperature that is unsafe for (See Datasheet)", 7 ITH "Control Signal of the Inner Loop of the Current Mode PWM. Higher ITH voltage corresponds to higher charging currrent in normal operation. A 6.04k resistor, in series with a capacitor of at least 0.1uF to GND, provides loop (See Datasheet)", 8 IMON (out) "Current Monitoring Output. The voltage at this pin provides a linear indication of charging current. Peak current is equivalent to 1.19V. Zero current is approximately 0.309V. A capacitor from IMON to ground is required to (See Datasheet)", 9 CSP (in) "Current Amplifier CA1 Input. This pin and the BAT pin measure the voltage across the sense resistor, RSENSE, to provide the instantaneous current signals required for both peak and average current mode operation.", 10 BAT (in) "Battery Sense Input and the Negative Reference for the Current Sense Resistor. A precision internal resistor divider sets the final float potential on this pin. The resistor divider is disconnected during shutdown.", 11 CLP (in) "Positive Input to the Supply Current Limiting Amplifier, CL1. The threshold is set at 100mV above the voltage at the CLN pin. When used to limit supply current, a filter is needed to filter out the switching noise. If no (See Datasheet)", 12 CLN (in) "Negative Reference for the Input Current Limit Amplifier, CL1. This pin also serves as the power supply for the IC. A 10uF to 22uF bypass capacitor should be connected as close as possible to this pin.", 13 TGATE (out) "Drives the top external P-channel MOSFET of the battery charger buck converter.", 14 PGND (power) "High Current Ground Return for the BGATE Driver.", 15 BGATE (out) "Drives the bottom external N-channel MOSFET of the battery charger buck converter.", 16 INFET (out) "Drives the Gate of the External Input PFET."

## LTC4006EGN-4#TR
designator U?
4 A, High Efficiency, Standalone Li-Ion Battery Charger, 6 to 28 V Vin, 16-pin SOP (GN-16), -40 to 85 degC, Tape and Reel; Manufacturer: Linear Technology; PartNumber: LTC4006EGN-4#TR; Battery Chemistry: Li-Ion, Li-Polymer; Charge Termination: On-board timer; Float Voltage: 16.8 V; Number of Cells: 2 to 4; Type of Charger: Switching; Vin Max(V): 28; Vin Min(V): 6; DatasheetVersion: Rev. A; PackageVersion: Rev. B, 03/2012; PackageReference: GN-16; PackageDescription: 16-Pin Plastic SSOP, Body 4.9 x 3.9 mm, Pitch 0.635 mm; Supplier 1: Digi-Key; Supplier Part Number 1: LTC4006EGN-4#TR-ND; Packing: Tape and Reel; RoHS: FALSE; Mounting Technology: Surface Mount; ComponentLink1Description: Manufacturer URL; ComponentLink1URL: http://www.linear.com/; ComponentLink2Description: Datasheet; ComponentLink2URL: http://cds.linear.com/docs/en/datasheet/4006fa.pdf; ComponentLink3Description: Package Specification; ComponentLink3URL: http://cds.linear.com/docs/en/packaging/05081641_B_GN16.pdf
footprint LT-GN-16_N (SOP, 16-Leads, Body 5x4mm, Pitch 0.635mm, IPC Medium Density)
footprint LT-GN-16_L (SOP, 16-Leads, Body 5x4mm, Pitch 0.635mm, IPC High Density)
footprint LT-GN-16_M (SOP, 16-Leads, Body 5x4mm, Pitch 0.635mm, IPC Low Density)
pins: 1 DCIN (power) "External DC Power Source Input. Bypass this pin with at least 0.01uF. See Applications Information section.", 2 ~{CHG} (hiz) "Open-Drain Charge Status Output. When the battery is being charged, the C\H\G\ pin is pulled low by an internal N-channel MOSFET. When the charge current drops below 10% of programmed current, the N-channel MOSFET turns off (See Datasheet)", 3 ACP/~{SHDN} (io), 4 RT "Timer Resistor. The timer period is set by placing a resistor, RRT, to GND.", 5 GND (power) "Ground for low power circuitry.", 6 NTC (in) "A thermistor network is connected from NTC to GND. This pin determines if the battery temperature is safe for charging. The charger and timer are suspended if the thermistor indicates a temperature that is unsafe for (See Datasheet)", 7 ITH "Control Signal of the Inner Loop of the Current Mode PWM. Higher ITH voltage corresponds to higher charging currrent in normal operation. A 6.04k resistor, in series with a capacitor of at least 0.1uF to GND, provides loop (See Datasheet)", 8 IMON (out) "Current Monitoring Output. The voltage at this pin provides a linear indication of charging current. Peak current is equivalent to 1.19V. Zero current is approximately 0.309V. A capacitor from IMON to ground is required to (See Datasheet)", 9 CSP (in) "Current Amplifier CA1 Input. This pin and the BAT pin measure the voltage across the sense resistor, RSENSE, to provide the instantaneous current signals required for both peak and average current mode operation.", 10 BAT (in) "Battery Sense Input and the Negative Reference for the Current Sense Resistor. A precision internal resistor divider sets the final float potential on this pin. The resistor divider is disconnected during shutdown.", 11 CLP (in) "Positive Input to the Supply Current Limiting Amplifier, CL1. The threshold is set at 100mV above the voltage at the CLN pin. When used to limit supply current, a filter is needed to filter out the switching noise. If no (See Datasheet)", 12 CLN (in) "Negative Reference for the Input Current Limit Amplifier, CL1. This pin also serves as the power supply for the IC. A 10uF to 22uF bypass capacitor should be connected as close as possible to this pin.", 13 TGATE (out) "Drives the top external P-channel MOSFET of the battery charger buck converter.", 14 PGND (power) "High Current Ground Return for the BGATE Driver.", 15 BGATE (out) "Drives the bottom external N-channel MOSFET of the battery charger buck converter.", 16 INFET (out) "Drives the Gate of the External Input PFET."

## LTC4006EGN-4#TRPBF
designator U?
4 A, High Efficiency, Standalone Li-Ion Battery Charger, 6 to 28 V Vin, 16-pin SOP (GN-16), -40 to 85 degC, Pb-Free, Tape and Reel; Manufacturer: Linear Technology; PartNumber: LTC4006EGN-4#TRPBF; Battery Chemistry: Li-Ion, Li-Polymer; Charge Termination: On-board timer; Float Voltage: 16.8 V; Number of Cells: 2 to 4; Type of Charger: Switching; Vin Max(V): 28; Vin Min(V): 6; DatasheetVersion: Rev. A; PackageVersion: Rev. B, 03/2012; PackageReference: GN-16; PackageDescription: 16-Pin Plastic SSOP, Body 4.9 x 3.9 mm, Pitch 0.635 mm; Supplier 1: Digi-Key; Supplier Part Number 1: LTC4006EGN-4#TRPBF-ND; Packing: Tape and Reel; RoHS: TRUE; Mounting Technology: Surface Mount; ComponentLink1Description: Manufacturer URL; ComponentLink1URL: http://www.linear.com/; ComponentLink2Description: Datasheet; ComponentLink2URL: http://cds.linear.com/docs/en/datasheet/4006fa.pdf; ComponentLink3Description: Package Specification; ComponentLink3URL: http://cds.linear.com/docs/en/packaging/05081641_B_GN16.pdf
footprint LT-GN-16_N (SOP, 16-Leads, Body 5x4mm, Pitch 0.635mm, IPC Medium Density)
footprint LT-GN-16_L (SOP, 16-Leads, Body 5x4mm, Pitch 0.635mm, IPC High Density)
footprint LT-GN-16_M (SOP, 16-Leads, Body 5x4mm, Pitch 0.635mm, IPC Low Density)
pins: 1 DCIN (power) "External DC Power Source Input. Bypass this pin with at least 0.01uF. See Applications Information section.", 2 ~{CHG} (hiz) "Open-Drain Charge Status Output. When the battery is being charged, the C\H\G\ pin is pulled low by an internal N-channel MOSFET. When the charge current drops below 10% of programmed current, the N-channel MOSFET turns off (See Datasheet)", 3 ACP/~{SHDN} (io), 4 RT "Timer Resistor. The timer period is set by placing a resistor, RRT, to GND.", 5 GND (power) "Ground for low power circuitry.", 6 NTC (in) "A thermistor network is connected from NTC to GND. This pin determines if the battery temperature is safe for charging. The charger and timer are suspended if the thermistor indicates a temperature that is unsafe for (See Datasheet)", 7 ITH "Control Signal of the Inner Loop of the Current Mode PWM. Higher ITH voltage corresponds to higher charging currrent in normal operation. A 6.04k resistor, in series with a capacitor of at least 0.1uF to GND, provides loop (See Datasheet)", 8 IMON (out) "Current Monitoring Output. The voltage at this pin provides a linear indication of charging current. Peak current is equivalent to 1.19V. Zero current is approximately 0.309V. A capacitor from IMON to ground is required to (See Datasheet)", 9 CSP (in) "Current Amplifier CA1 Input. This pin and the BAT pin measure the voltage across the sense resistor, RSENSE, to provide the instantaneous current signals required for both peak and average current mode operation.", 10 BAT (in) "Battery Sense Input and the Negative Reference for the Current Sense Resistor. A precision internal resistor divider sets the final float potential on this pin. The resistor divider is disconnected during shutdown.", 11 CLP (in) "Positive Input to the Supply Current Limiting Amplifier, CL1. The threshold is set at 100mV above the voltage at the CLN pin. When used to limit supply current, a filter is needed to filter out the switching noise. If no (See Datasheet)", 12 CLN (in) "Negative Reference for the Input Current Limit Amplifier, CL1. This pin also serves as the power supply for the IC. A 10uF to 22uF bypass capacitor should be connected as close as possible to this pin.", 13 TGATE (out) "Drives the top external P-channel MOSFET of the battery charger buck converter.", 14 PGND (power) "High Current Ground Return for the BGATE Driver.", 15 BGATE (out) "Drives the bottom external N-channel MOSFET of the battery charger buck converter.", 16 INFET (out) "Drives the Gate of the External Input PFET."

## LTC4006EGN-6
designator U?
4 A, High Efficiency, Standalone Li-Ion Battery Charger, 6 to 28 V Vin, 16-pin SOP (GN-16), -40 to 85 degC; Manufacturer: Linear Technology; PartNumber: LTC4006EGN-6; Battery Chemistry: Li-Ion, Li-Polymer; Charge Termination: On-board timer; Float Voltage: 8.4 V; Number of Cells: 2 to 4; Type of Charger: Switching; Vin Max(V): 28; Vin Min(V): 6; DatasheetVersion: Rev. A; PackageVersion: Rev. B, 03/2012; PackageReference: GN-16; PackageDescription: 16-Pin Plastic SSOP, Body 4.9 x 3.9 mm, Pitch 0.635 mm; Supplier 1: Digi-Key; Supplier Part Number 1: LTC4006EGN-6-ND; Supplier 2: Newark; Supplier Part Number 2: 56M8649; RoHS: FALSE; Mounting Technology: Surface Mount; ComponentLink1Description: Manufacturer URL; ComponentLink1URL: http://www.linear.com/; ComponentLink2Description: Datasheet; ComponentLink2URL: http://cds.linear.com/docs/en/datasheet/4006fa.pdf; ComponentLink3Description: Package Specification; ComponentLink3URL: http://cds.linear.com/docs/en/packaging/05081641_B_GN16.pdf
footprint LT-GN-16_N (SOP, 16-Leads, Body 5x4mm, Pitch 0.635mm, IPC Medium Density)
footprint LT-GN-16_L (SOP, 16-Leads, Body 5x4mm, Pitch 0.635mm, IPC High Density)
footprint LT-GN-16_M (SOP, 16-Leads, Body 5x4mm, Pitch 0.635mm, IPC Low Density)
pins: 1 DCIN (power) "External DC Power Source Input. Bypass this pin with at least 0.01uF. See Applications Information section.", 2 ~{CHG} (hiz) "Open-Drain Charge Status Output. When the battery is being charged, the C\H\G\ pin is pulled low by an internal N-channel MOSFET. When the charge current drops below 10% of programmed current, the N-channel MOSFET turns off (See Datasheet)", 3 ACP/~{SHDN} (io), 4 RT "Timer Resistor. The timer period is set by placing a resistor, RRT, to GND.", 5 GND (power) "Ground for low power circuitry.", 6 NTC (in) "A thermistor network is connected from NTC to GND. This pin determines if the battery temperature is safe for charging. The charger and timer are suspended if the thermistor indicates a temperature that is unsafe for (See Datasheet)", 7 ITH "Control Signal of the Inner Loop of the Current Mode PWM. Higher ITH voltage corresponds to higher charging currrent in normal operation. A 6.04k resistor, in series with a capacitor of at least 0.1uF to GND, provides loop (See Datasheet)", 8 IMON (out) "Current Monitoring Output. The voltage at this pin provides a linear indication of charging current. Peak current is equivalent to 1.19V. Zero current is approximately 0.309V. A capacitor from IMON to ground is required to (See Datasheet)", 9 CSP (in) "Current Amplifier CA1 Input. This pin and the BAT pin measure the voltage across the sense resistor, RSENSE, to provide the instantaneous current signals required for both peak and average current mode operation.", 10 BAT (in) "Battery Sense Input and the Negative Reference for the Current Sense Resistor. A precision internal resistor divider sets the final float potential on this pin. The resistor divider is disconnected during shutdown.", 11 CLP (in) "Positive Input to the Supply Current Limiting Amplifier, CL1. The threshold is set at 100mV above the voltage at the CLN pin. When used to limit supply current, a filter is needed to filter out the switching noise. If no (See Datasheet)", 12 CLN (in) "Negative Reference for the Input Current Limit Amplifier, CL1. This pin also serves as the power supply for the IC. A 10uF to 22uF bypass capacitor should be connected as close as possible to this pin.", 13 TGATE (out) "Drives the top external P-channel MOSFET of the battery charger buck converter.", 14 PGND (power) "High Current Ground Return for the BGATE Driver.", 15 BGATE (out) "Drives the bottom external N-channel MOSFET of the battery charger buck converter.", 16 INFET (out) "Drives the Gate of the External Input PFET."